# EAGLE library part CD4503BE (library CD4503BE)
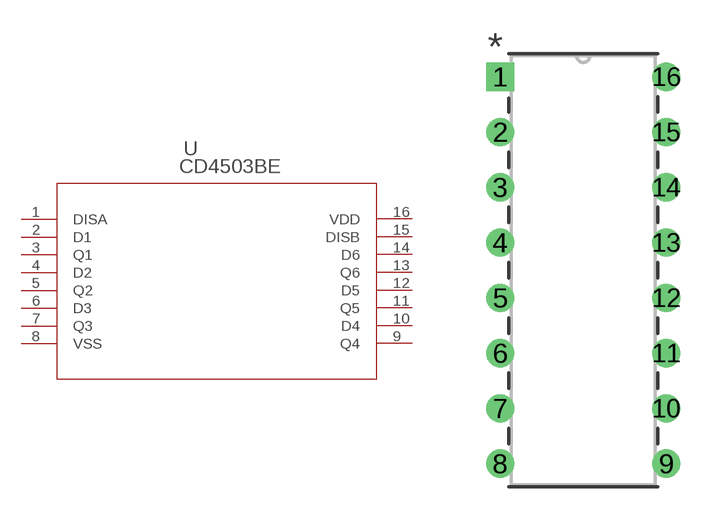
[diagram p0: symbol with the pads of N16; footprint N16]

Designator prefix U

## CD4503BE (BUILT_BY: EMA_UL_Team; MANUFACTURER_PART_NUMBER: CD4503BE; VENDOR: Texas Instruments)  [N16]
1  DISA  pas
2  D1  pas
3  Q1  pas
4  D2  pas
5  Q2  pas
6  D3  pas
7  Q3  pas
8  VSS  pwr
9  Q4  pas
10  D4  pas
11  Q5  pas
12  D5  pas
13  Q6  pas
14  D6  pas
15  DISB  pas
16  VDD  pwr

## Footprint N16 (pad centres in mm)
drill 0.787 pad 1.295 square: 1 -7.62,17.78
drill 0.787 pad 1.295: 2 -7.62,15.24; 3 -7.62,12.7; 4 -7.62,10.16; 5 -7.62,7.62; 6 -7.62,5.08; 7 -7.62,2.54; 8 -7.62,0; 9 0,0; 10 0,2.54; 11 0,5.08; 12 0,7.62; 13 0,10.16; 14 0,12.7; 15 0,15.24; 16 0,17.78